# EAGLE library part TEENSY-3.2-BREAKOUT-REV-B-STANDARD (library Teensy-Breakout-Eagle-Library)
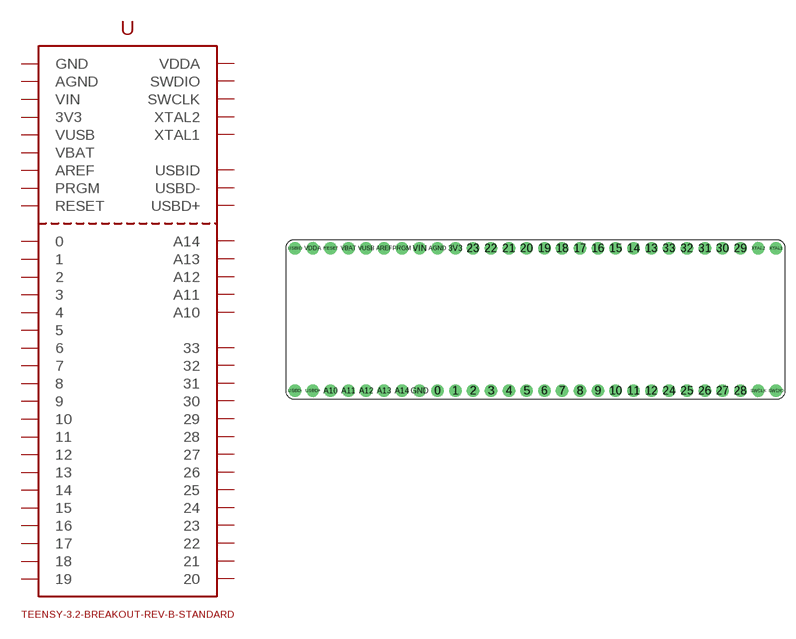
[diagram p5: symbol with the pads of TEENSY-3.2-BREAKOUT-REV-B-STANDARD; footprint TEENSY-3.2-BREAKOUT-REV-B-STANDARD]

Designator prefix -

## TEENSY-3.2-BREAKOUT-REV-B-STANDARD  [TEENSY-3.2-BREAKOUT-REV-B-STANDARD]
0  0
1  1
2  2
3  3
3V3  3V3
4  4
5  5
6  6
7  7
8  8
9  9
10  10
11  11
12  12
13  13
14  14
15  15
16  16
17  17
18  18
19  19
20  20
21  21
22  22
23  23
24  24
25  25
26  26
27  27
28  28
29  29
30  30
31  31
32  32
33  33
A10  A10
A11  A11
A12  A12
A13  A13
A14  A14
AGND  AGND
AREF  AREF
GND  GND
PRGM  PRGM
RESET  RESET
SWCLK  SWCLK
SWDIO  SWDIO
USBD+  USBD+
USBD-  USBD-
USBID  USBID
VBAT  VBAT
VDDA  VDDA
VIN  VIN
VUSB  VUSB
XTAL1  XTAL1
XTAL2  XTAL2

## Footprint TEENSY-3.2-BREAKOUT-REV-B-STANDARD (pad centres in mm)
drill 1.016 pad 1.778: 0 21.59,1.27; 1 24.13,1.27; 2 26.67,1.27; 3 29.21,1.27; 3V3 24.13,21.59; 4 31.75,1.27; 5 34.29,1.27; 6 36.83,1.27; 7 39.37,1.27; 8 41.91,1.27; 9 44.45,1.27; 10 46.99,1.27; 11 49.53,1.27; 12 52.07,1.27; 13 52.07,21.59; 14 49.53,21.59; 15 46.99,21.59; 16 44.45,21.59; 17 41.91,21.59; 18 39.37,21.59; 19 36.83,21.59; 20 34.29,21.59; 21 31.75,21.59; 22 29.21,21.59; 23 26.67,21.59; 24 54.61,1.27; 25 57.15,1.27; 26 59.69,1.27; 27 62.23,1.27; 28 64.77,1.27; 29 64.77,21.59; 30 62.23,21.59; 31 59.69,21.59; 32 57.15,21.59; 33 54.61,21.59; A10 6.35,1.27; A11 8.89,1.27; A12 11.43,1.27; A13 13.97,1.27; A14 16.51,1.27; AGND 21.59,21.59; AREF 13.97,21.59; GND 19.05,1.27; PRGM 16.51,21.59; RESET 6.35,21.59; SWCLK 67.31,1.27; SWDIO 69.85,1.27; USBD+ 3.81,1.27; USBD- 1.27,1.27; USBID 1.27,21.59; VBAT 8.89,21.59; VDDA 3.81,21.59; VIN 19.05,21.59; VUSB 11.43,21.59; XTAL1 69.85,21.59; XTAL2 67.31,21.59